# Altium schematic symbol library TPS259830ONRGER.SchLib: 1 symbol
Pins are listed as number, name and electrical type; pins without a type are passive.

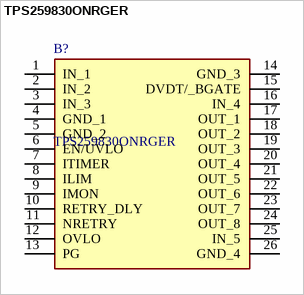
[diagram p0: symbol TPS259830ONRGER]

## TPS259830ONRGER
designator B?
Hot Swap Voltage Controllers 2.7-V to 26-V, 2.7-mohm 18-A integrated hot-swap eFuse with current monitor and blocking FET driver 24-VQFN -40 to 125; Manufacturer_Name: Texas Instruments; Geometry.Height: 1mm; Mouser Part Number: 595-TPS259830ONRGER; Mouser Price/Stock: https://www.mouser.co.uk/ProductDetail/Texas-Instruments/TPS259830ONRGER?qs=ST9lo4GX8V2yYPVZTyti6w%3D%3D; Manufacturer_Part_Number: TPS259830ONRGER; Datasheet Link: https://www.ti.com/lit/gpn/tps25983
footprint TPS259830ONRGER
pins: 1 IN_1, 2 IN_2, 3 IN_3, 4 GND_1, 5 GND_2, 6 EN/UVLO, 7 ITIMER, 8 ILIM, 9 IMON, 10 RETRY_DLY, 11 NRETRY, 12 OVLO, 13 PG, 14 GND_3, 15 DVDT/_BGATE, 16 IN_4, 17 OUT_1, 18 OUT_2, 19 OUT_3, 20 OUT_4, 21 OUT_5, 22 OUT_6, 23 OUT_7, 24 OUT_8, 25 IN_5, 26 GND_4